# Altium integrated library Morethanall Circular DIN Miniature.IntLib: 1 symbol
Pins are listed as number, name and electrical type; pins without a type are passive.

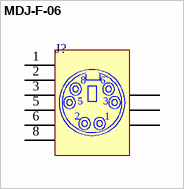
[diagram p0: symbol MDJ-F-06]

## MDJ-F-06
designator J?
Circular DIN, 6 Postion, Jack, Pitch 2.1/2.6 mm; PCB_Layout: Complies with manufacturer's recommendation.; DrillSize: Corresponds to nominal value.; Published: 11-Oct-2004; DatasheetDocument: 16-Mar-2004; PackageDocument: 16-Mar-2004; PackageReference: MDJ-F-06; Publisher: Altium Limited; ComponentLink1Description: Manufacturer Link; ComponentLink1URL: http://www.morethanall.com/; ComponentLink2Description: Datasheet; ComponentLink2URL: http://www.morethanall.com/Drawing/MDJ-F-06.pdf
footprint MDJ-F-06 (Connector; Circular DIN, Thru-Hole; 6 Position; Right Angle; Pitch 2.1/2.6 mm; Body 14 x 12.9 x 13 mm (WxTxH))
signal-integrity model Circular DIN
pins: 1, 2, 3, 5, 6, 8, MH1 "Mounting Fixture", MH2 "Mounting Fixture", MH3 "Mounting Fixture"